# Altium footprint library to.PcbLib: 51 footprints (part 3 of 4)
Each footprint in its own frame and in the unit in brackets; x right, y up, seen from the top. Pads: shape width x height; smd on the part's side, far side on the other; paste and mask are expansions set on the pad; w line width, h text height; cw(c..) or ccw(c..) is an arc to the next point about the centre after c.
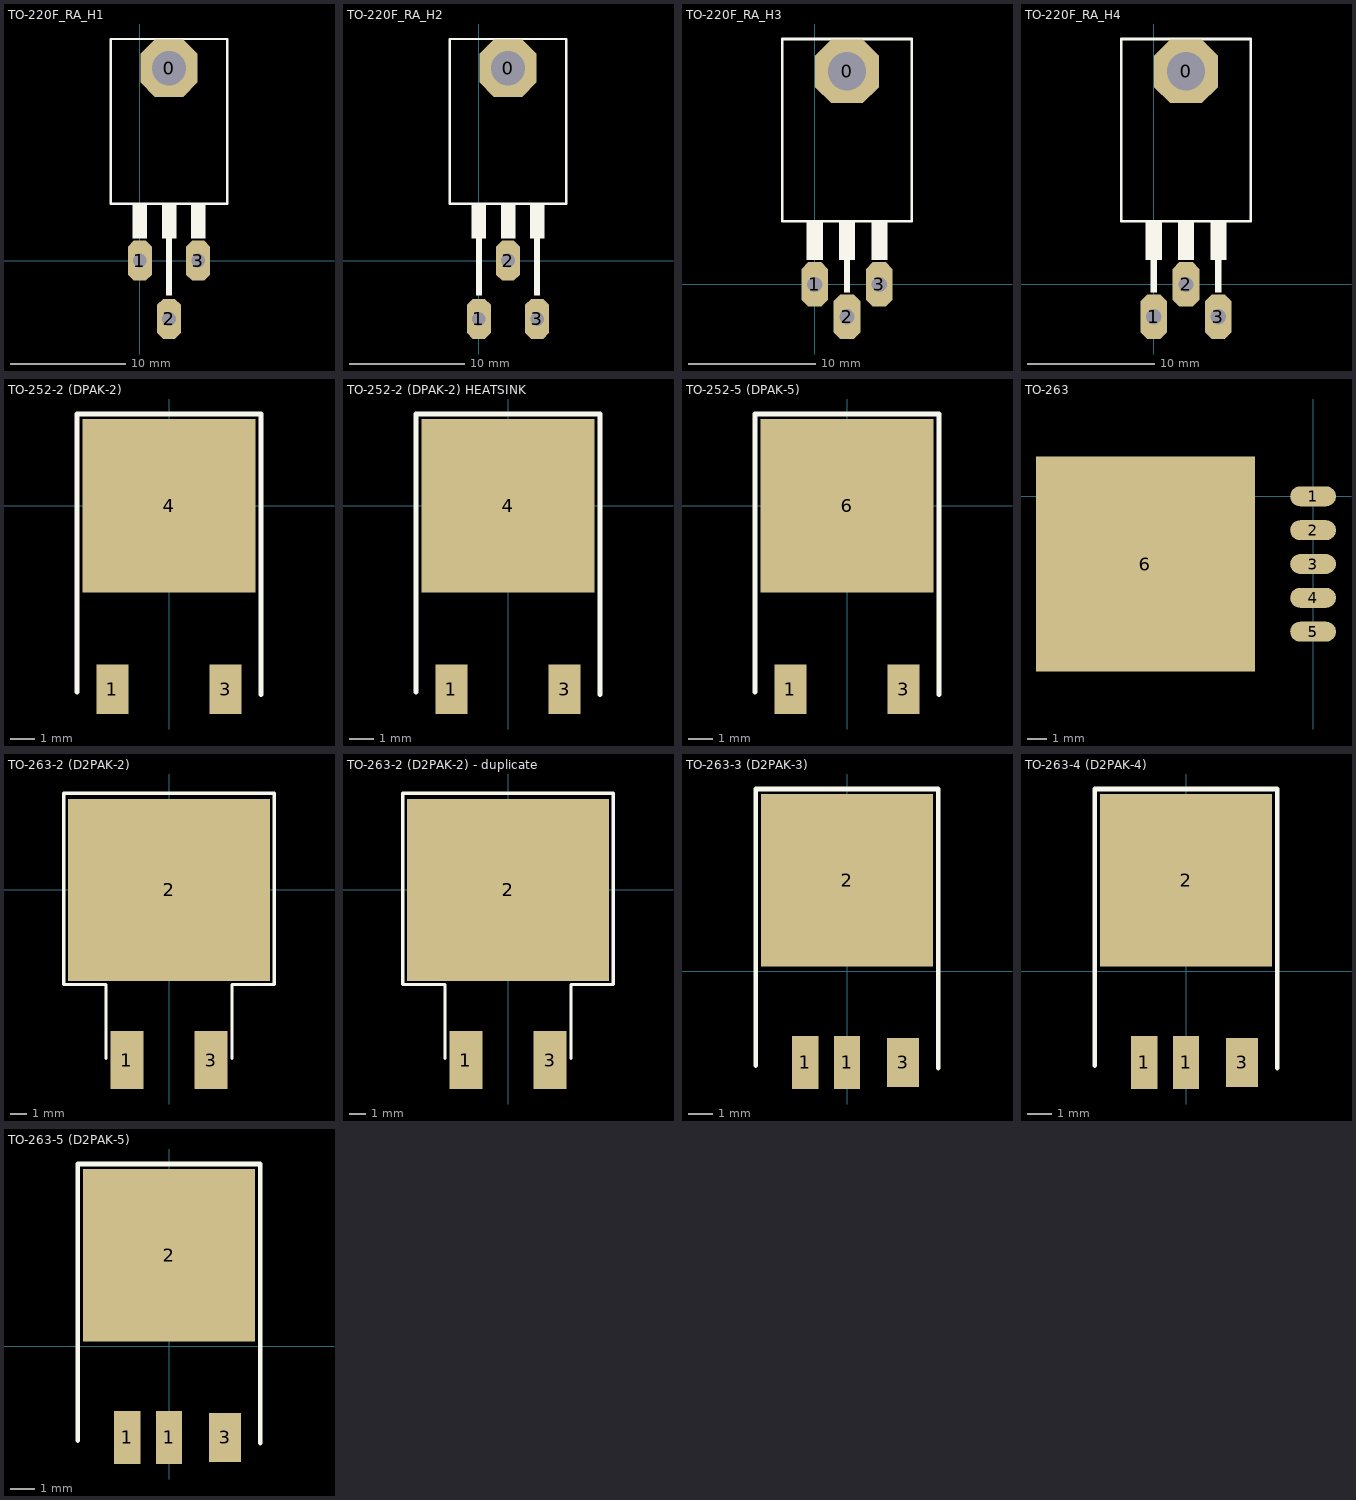
[diagram p2: the footprints below, top view; thin cyan lines are the x and y axes]

## TO-220F_RA_H1 [mm]
pads (4):
  oct 5x5 hole 3: 0(2.54,16.764)
  oct 2.1x3.5 hole 1.2: 1(0,0) 2(2.54,-5.08) 3(5.08,0)
Top Overlay:
  rectangle: 2.286,-3.048 2.794,2.417
  rectangle: -0.63,1.905 0.64,4.957
  rectangle: 1.91,1.905 3.18,4.957
  rectangle: 4.45,1.905 5.72,4.957
  lines w0.2: -2.54,4.953 7.62,4.953 7.62,19.304 -2.54,19.304 -2.54,4.953

## TO-220F_RA_H2 [mm]
pads (4):
  oct 5x5 hole 3: 0(2.54,16.764)
  oct 2.1x3.5 hole 1.2: 1(0,-5.08) 2(2.54,0) 3(5.08,-5.08)
Top Overlay:
  rectangle: 4.45,1.905 5.72,4.957
  rectangle: 1.91,1.905 3.18,4.957
  rectangle: -0.63,1.905 0.64,4.957
  rectangle: -0.254,-3.048 0.254,2.417
  rectangle: 4.826,-3.048 5.334,2.417
  lines w0.2: -2.54,4.953 -2.54,19.304 7.62,19.304 7.62,4.953 -2.54,4.953

## TO-220F_RA_H3 [mm]
pads (4):
  oct 5x5 hole 3: 0(2.54,16.764)
  oct 2.1x3.5 hole 1.2: 1(0,0) 2(2.54,-2.54) 3(5.08,0)
Top Overlay:
  rectangle: 2.286,-0.635 2.794,2.417
  rectangle: -0.63,1.905 0.64,4.957
  rectangle: 1.91,1.905 3.18,4.957
  rectangle: 4.45,1.905 5.72,4.957
  lines w0.2: -2.54,4.953 7.62,4.953 7.62,19.304 -2.54,19.304 -2.54,4.953

## TO-220F_RA_H4 [mm]
pads (4):
  oct 5x5 hole 3: 0(2.54,16.764)
  oct 2.1x3.5 hole 1.2: 1(0,-2.54) 2(2.54,0) 3(5.08,-2.54)
Top Overlay:
  rectangle: 4.45,1.905 5.72,4.957
  rectangle: 1.91,1.905 3.18,4.957
  rectangle: -0.63,1.905 0.64,4.957
  rectangle: -0.254,-0.635 0.254,2.417
  rectangle: 4.826,-0.635 5.334,2.417
  lines w0.2: -2.54,4.953 -2.54,19.304 7.62,19.304 7.62,4.953 -2.54,4.953

## TO-252-2 (DPAK-2) [mm]
pads (3):
  rect 1.3x2 smd: 1(-2.285,-7.4) 3(2.285,-7.4)
  rect 7x7 smd: 4(0,0)
Top Overlay:
  lines w0.2: -3.708,-7.518 -3.708,3.708 3.708,3.708 3.708,-7.62
3D body "User Library-TO252AA.step": height 2.3, standoff -0.01, extent -3.29,-7.493 3.29,2.207

## TO-252-2 (DPAK-2) HEATSINK [mm] "DPAK + TO-263 D2PAK Heat Sink Aavid Thermalloy 573300D00010"
pads (3):
  rect 1.3x2 smd: 1(-2.285,-7.4) 3(2.285,-7.4)
  rect 7x7 smd: 4(0,0)
Top Overlay:
  lines w0.2: -3.708,-7.518 -3.708,3.708 3.708,3.708 3.708,-7.62
3D body "User Library-Assem_Dpak2.step": height 10.25, standoff -0.03, extent -11.43,-7.5 11.43,3.249

## TO-252-5 (DPAK-5) [mm]
pads (3):
  rect 1.3x2 smd: 1(-2.285,-7.4) 3(2.285,-7.4)
  rect 7x7 smd: 6(0,0)
Top Overlay:
  lines w0.2: -3.708,-7.518 -3.708,3.708 3.708,3.708 3.708,-7.62
3D body "SW3dPS-PG-TO252-5-11-1.STEP": height 2.3, standoff 0, extent -3.25,-7.4 3.25,2.5

## TO-262 [mm]
3D body "SW3dPS-TO262-S.STEP": height 3.02, standoff -1.49, extent -2.6,-8.08 7.4,9.95

## TO-263 [mm]
pads (6):
  oval 2.3x1 smd: 1(0,0) 2(0,-1.7) 3(0,-3.4) 4(0,-5.1) 5(0,-6.8)
  rect 11x10.8 smd: 6(-8.42,-3.4)

## TO-263 D2PAK Heat Sink [mm]
3D body "User Library-HS_7106.step": height 4.19, standoff -5.33, extent -13.205,-14.99 12.705,0

## TO-263 DPAK Heat Sink [mm] "TO-263 D2PAK Heat Sink Aavid Thermalloy 573300D00010"
3D body "User Library-HS Thermal.step": height 9.4, standoff -0.76, extent -13.595,-6.25 9.265,1.75

## TO-263-2 (D2PAK-2) [mm]
pads (3):
  rect 2x3.5 smd: 1(-2.54,-10.275) 3(2.54,-10.275)
  rect 12.2x11 smd: 2(0,0)
Top Overlay:
  lines w0.2: -3.81,-10.16 -3.81,-5.715 -6.35,-5.715 -6.35,5.842 6.35,5.842 6.35,-5.715 3.81,-5.715 3.81,-10.16
3D body "SW3dPS-TO263-3S.STEP": height 4.78, standoff -0.02, extent -5,-10.89 5,4.78

## TO-263-2 (D2PAK-2) - duplicate [mm]
pads (3):
  rect 2x3.5 smd: 1(-2.54,-10.275) 3(2.54,-10.275)
  rect 12.2x11 smd: 2(0,0)
Top Overlay:
  lines w0.2: -3.81,-10.16 -3.81,-5.715 -6.35,-5.715 -6.35,5.842 6.35,5.842 6.35,-5.715 3.81,-5.715 3.81,-10.16
3D body "User Library-7106_DPak2.STEP": height 9.58, standoff -0.02, extent -7.5,-18.205 7.49,7.705

## TO-263-3 (D2PAK-3) [mm]
pads (4):
  rect 1.07x2.16 smd: 1(-1.7,-3.7) 1(0,-3.7)
  rect 7x7 smd: 2(0,3.7)
  rect 1.3x2 smd: 3(2.285,-3.7)
Top Overlay:
  lines w0.2: -3.708,-3.818 -3.708,7.408 3.708,7.408 3.708,-3.92
3D body "SW3dPS-TO263-3.STEP": height 4.78, standoff -0.02, extent -4.7,-4.69 5.3,10.98

## TO-263-4 (D2PAK-4) [mm]
pads (4):
  rect 1.07x2.16 smd: 1(-1.7,-3.7) 1(0,-3.7)
  rect 7x7 smd: 2(0,3.7)
  rect 1.3x2 smd: 3(2.285,-3.7)
Top Overlay:
  lines w0.2: -3.708,-3.818 -3.708,7.408 3.708,7.408 3.708,-3.92
3D body "SW3dPS-TO263-5S.STEP": height 4.78, standoff -0.02, extent -5.1,-4.29 4.9,11.38

## TO-263-5 (D2PAK-5) [mm]
pads (4):
  rect 1.07x2.16 smd: 1(-1.7,-3.7) 1(0,-3.7)
  rect 7x7 smd: 2(0,3.7)
  rect 1.3x2 smd: 3(2.285,-3.7)
Top Overlay:
  lines w0.2: -3.708,-3.818 -3.708,7.408 3.708,7.408 3.708,-3.92
3D body "SW3dPS-TO263-5.STEP": height 4.78, standoff -0.02, extent -4.7,-5.89 5.3,9.78